# Altium integrated library ERJS03F1001V.IntLib: 1 symbol
Pins are listed as number, name and electrical type; pins without a type are passive.

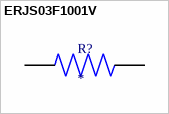
[diagram p0: symbol ERJS03F1001V]

## ERJS03F1001V
designator R?
1 kOhms Â±1% 0.1W, 1/10W Chip Resistor 0603 (1608 Metric) Anti-Sulfur, Automotive AEC-Q200 Thick Film; MF: Panasonic; MP: ERJ-S03F1001V; SnapEDA_Link: https://www.snapeda.com/parts/ERJ-S03F1001V/Panasonic/view-part/?ref=snap; Package: 1608-2 Panasonic; Value: *; Check_prices: https://www.snapeda.com/parts/ERJ-S03F1001V/Panasonic/view-part/?ref=eda
footprint RES_ERJS03F1001V
pins: 1, 2